# Altium footprint library CAPPM320X160X180L85X119N.PcbLib: 1 footprints
Each footprint in its own frame and in the unit in brackets; x right, y up, seen from the top. Pads: shape width x height; smd on the part's side, far side on the other; paste and mask are expansions set on the pad; w line width, h text height; cw(c..) or ccw(c..) is an arc to the next point about the centre after c.
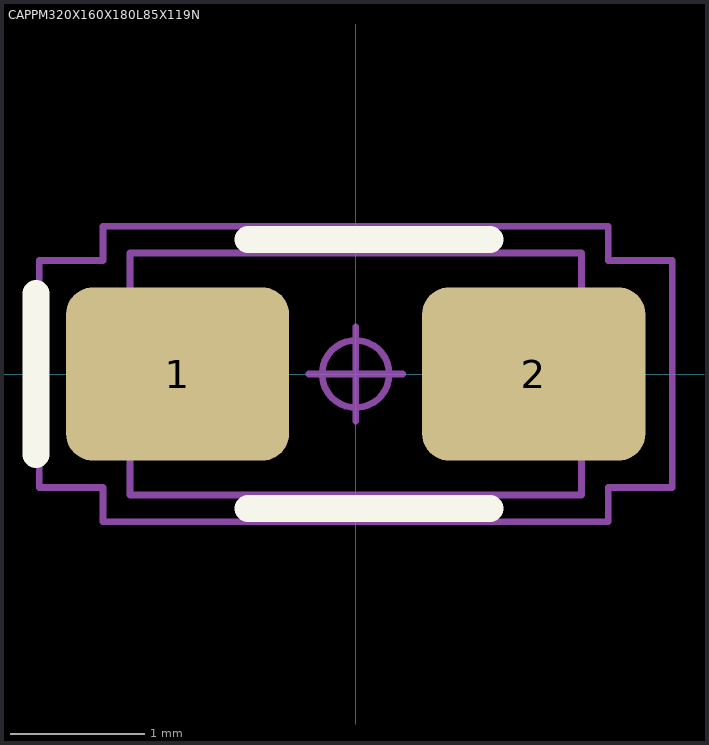
[diagram p0: the footprint, top view; thin cyan lines are the x and y axes]

## CAPPM320X160X180L85X119N [mm] "Capacitor, Polarized, Molded Body; 3.15 mm L X 1.60 mm W X 1.80 mm H body"
height 1.8
pads (2):
  rrect31% 1.66x1.29 smd mask+0.05: 1(-1.325,0) 2(1.325,0)
Top Overlay:
  lines w0.2: -2.38,-0.6 -2.38,0.6 ; -0.8,-1 1,-1 ; -0.8,1 1,1
Mechanical 11:
  lines w0.05: -1.68,-0.9 1.68,-0.9 1.68,0.9 -1.68,0.9 -1.68,-0.9
Mechanical 15:
  circle w0.05: c0,0 r0.25
  lines w0.05: -0.35,0 0.35,0 ; 0,-0.35 0,0.35 ; -2.355,-0.845 -1.88,-0.845 -1.88,-1.1 1.88,-1.1 1.88,-0.845 2.355,-0.845 2.355,0.845 1.88,0.845 1.88,1.1 -1.88,1.1 -1.88,0.845 -2.355,0.845 -2.355,-0.845
3D body "CAPPM320X160X180L85X119.STEP": height 1.8, standoff 0, extent -1.6,-0.8 1.6,0.8